# Altium schematic symbol library Clock_Schlib1.SchLib: 18 symbols
Pins are listed as number, name and electrical type; pins without a type are passive.

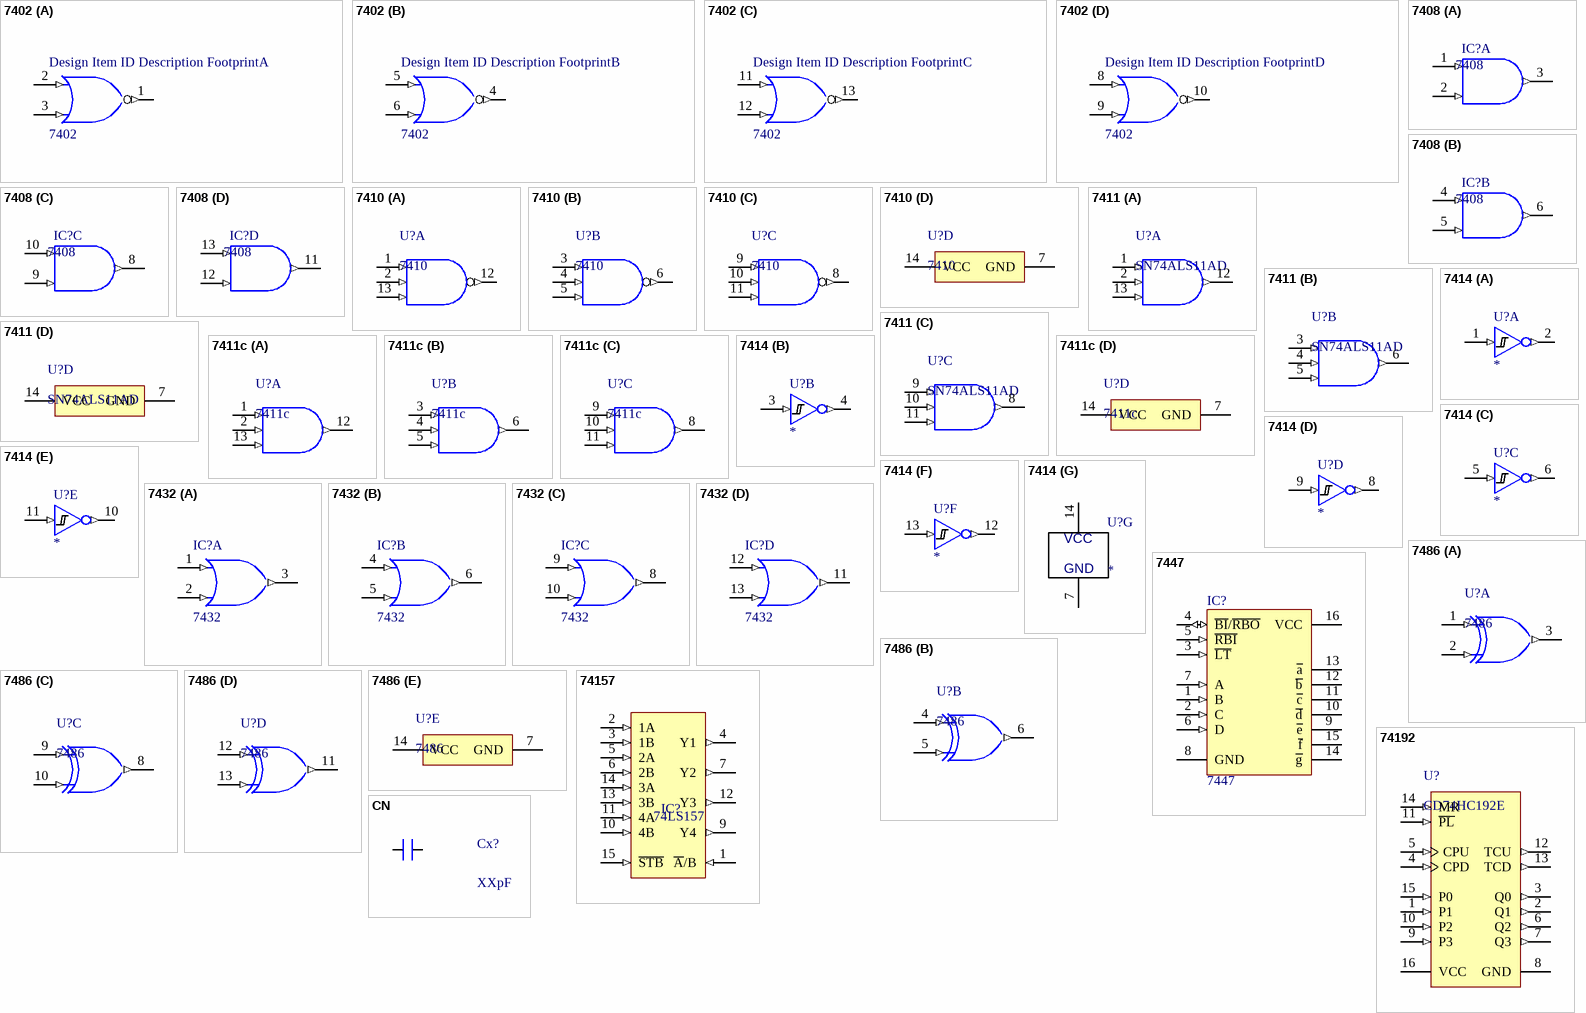
[diagram p0: symbols 7402 to CN]

## 7402
designator Design Item ID Description Footprint
Quad 2-Input NOR Gate; Value: 7402
footprint DIP14
footprint SO14 (SOIC, 14-Leads, Body 8.60x3.90mm, Pitch 1.27mm, IPC Medium Density)
pins on every part: 7 GND (power) hidden to GND, 14 VCC (power) hidden to VCC
part A pins: 1 ~{O} (out), 2 A (in), 3 B (in)
part B pins: 4 ~{O} (out), 5 A (in), 6 B (in)
part C pins: 11 A (in), 12 B (in), 13 ~{O} (out)
part D pins: 8 A (in), 9 B (in), 10 ~{O} (out)

## 7408
designator IC?
Quad 2-Input AND Gate; Value: 7408
footprint DIP14
footprint SO14 (SOIC, 14-Leads, Body 8.60x3.90mm, Pitch 1.27mm, IPC Medium Density)
pins on every part: 7 GND (power) hidden to GND, 14 VCC (power) hidden to VCC
part A pins: 1 A (in), 2 B (in), 3 O (out)
part B pins: 4 A (in), 5 B (in), 6 O (out)
part C pins: 8 O (out), 9 B (in), 10 A (in)
part D pins: 11 O (out), 12 B (in), 13 A (in)

## 7410
designator U?
Triple 3-input positive-NAND gates, N0014A, TUBE; Manufacturer: Texas Instruments; Generic Part Number: SN74F10; Input Type: TTL; F @ Nom Voltage(Max)(Mhz): 70; Schmitt Trigger: No; tpd @ Nom Voltage(Max)(ns): 6; Bits(#): 3; Rating: Catalog; VCC(Max)(V): 5.5; ICC @ Nom Voltage(Max)(mA): 0.0077; Output Drive (IOL/IOH)(Max)(mA): 1/-20; Technology Family: F; VCC(Min)(V): 4.5; Voltage(Nom)(V): 5; DatasheetVersion: SDFS039A; Output Type: TTL; Code_JEDEC: MS-001; Operating Temperature Range(C): 0 to 70; PackageReference: N0014A
footprint N0014A (DIP, 14-Leads, Body 19.7x6.6mm, Pitch 2.54mm)
part A pins: 1 1A (in), 2 1B (in), 12 1Y (out), 13 1C (in)
part B pins: 3 2A (in), 4 2B (in), 5 2C (in), 6 2Y (out)
part C pins: 8 3Y (out), 9 3A (in), 10 3B (in), 11 3C (in)
part D pins: 7 GND (power), 14 VCC (power)

## 7411
designator U?, comment SN74ALS11AD
Triple 3-Input Positive-AND Gates, D0014A, TUBE; Manufacturer: Texas Instruments; F @ Nom Voltage(Max)(Mhz): 75; Output Drive (IOL/IOH)(Max)(mA): -2.6/24; VCC(Max)(V): 5.5; Rating: Catalog; ICC @ Nom Voltage(Max)(mA): 0.0018; tpd @ Nom Voltage(Max)(ns): 13; VCC(Min)(V): 4.5; Bits(#): 3; Schmitt Trigger: No; Voltage(Nom)(V): 5; Technology Family: ALS; Output Type: TTL; Operating Temperature Range(C): 0 to 70; Generic Part Number: SN74ALS11A; PackageReference: D0014A; DatasheetVersion: SDAS009D; Input Type: TTL
footprint D0014A_L (SOIC, 14-Leads, Body 8.75x4mm, Pitch 1.27mm, IPC High Density)
footprint D0014A_N (SOIC, 14-Leads, Body 8.75x4mm, Pitch 1.27mm, IPC Medium Density)
footprint D0014A_M (SOIC, 14-Leads, Body 8.75x4mm, Pitch 1.27mm, IPC Low Density)
part A pins: 1 1A (in), 2 1B (in), 12 1Y (out), 13 1C (in)
part B pins: 3 2A (in), 4 2B (in), 5 2C (in), 6 2Y (out)
part C pins: 8 3Y (out), 9 3A (in), 10 3B (in), 11 3C (in)
part D pins: 7 GND (power), 14 VCC (power)

## 7411c
designator U?
High Speed CMOS Logic Triple 3-Input AND Gates, N0014A, TUBE; Generic Part Number: CD74HC11; Manufacturer: Texas Instruments; tpd @ Nom Voltage(Max)(ns): 25; VCC(Max)(V): 6; Rating: Catalog; Technology Family: HC; Schmitt Trigger: No; ICC @ Nom Voltage(Max)(mA): 0.02; Bits(#): 3; Voltage(Nom)(V): 5; Output Drive (IOL/IOH)(Max)(mA): -5.2/5.2; VCC(Min)(V): 2; F @ Nom Voltage(Max)(Mhz): 70; DatasheetVersion: SCHS273E; Input Type: CMOS; PackageReference: N0014A; Output Type: CMOS; Operating Temperature Range(C): -55 to 125
footprint N0014A (DIP, 14-Leads, Body 19.7x6.6mm, Pitch 2.54mm)
part A pins: 1 1A (in), 2 1B (in), 12 1Y (out), 13 1C (in)
part B pins: 3 2A (in), 4 2B (in), 5 2C (in), 6 2Y (out)
part C pins: 8 3Y (out), 9 3A (in), 10 3B (in), 11 3C (in)
part D pins: 7 GND (power), 14 VCC (power)

## 7414
designator U?
IC, M74HC04M, Hex Inverter, SO-14; Text Field1: ST; Text Field2: M74HC04M1R; Text Field3: Mouser; Text Field4: 511-M74HC04M; Text Field6: .22; Text Field5: SO-14; NI?: *; O?: *; Section:: *
footprint SO14 (SOIC, 14-Leads, Body 8.60x3.90mm, Pitch 1.27mm, IPC Medium Density)
footprint DIP14
footprint TSSOP14 (TSSOP, 14-Leads, Body 5.00x4.40mm, Pitch 0.65mm, IPC High Density)
part A pins: 1 A (in), 2 Y (out)
part B pins: 3 A (in), 4 Y (out)
part C pins: 5 A (in), 6 Y (out)
part D pins: 8 Y (out), 9 A (in)
part E pins: 10 Y (out), 11 A (in)
part F pins: 12 Y (out), 13 A (in)
part G pins: 7 GND, 14 VCC

## 7432
designator IC?
Quad 2-Input OR Gate
footprint DIP14
footprint SO14 (SOIC, 14-Leads, Body 8.60x3.90mm, Pitch 1.27mm, IPC Medium Density)
pins on every part: 7 GND (power) hidden to GND, 14 VCC (power) hidden to VCC
part A pins: 1 A (in), 2 B (in), 3 Y (out)
part B pins: 4 A (in), 5 B (in), 6 Y (out)
part C pins: 8 Y (out), 9 A (in), 10 B (in)
part D pins: 11 Y (out), 12 A (in), 13 B (in)

## 7447
designator IC?
BCD to 7-Segment Decoder/Driver; Value: 7447 , 74247
footprint DIP16
footprint SO16 (SOIC, 16-Leads, Body 9.90x3.91mm, Pitch 1.27mm, IPC Medium Density)
pins: 1 B (in), 2 C (in), 3 ~{LT} (in), 4 ~{BI}/~{RBO} (io), 5 ~{RBI} (in), 6 D (in), 7 A (in), 8 GND (power), 9 ~{e} (oc), 10 ~{d} (oc), 11 ~{c} (oc), 12 ~{b} (oc), 13 ~{a} (oc), 14 ~{g} (oc), 15 ~{f} (oc), 16 VCC (power)

## 7486
designator U?
High Speed CMOS Logic Quad 2-Input Exclusive-OR Gates, N0014A, TUBE; Manufacturer: Texas Instruments; Generic Part Number: CD74HC86; tpd @ Nom Voltage(Max)(ns): 30; Rating: Catalog; F @ Nom Voltage(Max)(Mhz): 70; VCC(Max)(V): 6; ICC @ Nom Voltage(Max)(mA): 0.02; VCC(Min)(V): 2; Voltage(Nom)(V): 5; Technology Family: HC; Schmitt Trigger: No; Output Drive (IOL/IOH)(Max)(mA): 5.2/-5.2; Bits(#): 4; Output Type: CMOS; DatasheetVersion: SCHS137D; Input Type: CMOS; PackageReference: N0014A; Operating Temperature Range(C): -55 to 125
footprint N0014A (DIP, 14-Leads, Body 19.7x6.6mm, Pitch 2.54mm)
part A pins: 1 1A (in), 2 1B (in), 3 1Y (out)
part B pins: 4 2A (in), 5 2B (in), 6 2Y (out)
part C pins: 8 3Y (out), 9 3A (in), 10 3B (in)
part D pins: 11 4Y (out), 12 4A (in), 13 4B (in)
part E pins: 7 GND (power), 14 VCC (power)

## 74157
designator IC?, comment 74LS157
Quad 2-Input Multiplexer; Value: 74LS157
footprint DIP16
footprint SO16 (SOIC, 16-Leads, Body 9.90x3.91mm, Pitch 1.27mm, IPC Medium Density)
pins: 1 ~{A}/B (in), 2 1A (in), 3 1B (in), 4 Y1 (out), 5 2A (in), 6 2B (in), 7 Y2 (out), 8 GND (power) hidden to GND, 9 Y4 (out), 10 4B (in), 11 4A (in), 12 Y3 (out), 13 3B (in), 14 3A (in), 15 ~{STB} (in), 16 VDD (power) hidden to VDD

## 74192
designator U?, comment CD74HC192E
High Speed CMOS Logic Presettable Synchronous BCD Decade Up/Down Counter with Asynchronous Reset, N0016A, TUBE; Manufacturer: Texas Instruments; Output Drive (IOL/IOH)(Max)(mA): 5.2/-5.2; Inputs: 1; VCC(Min)(V): 2; ICC @ Nom Voltage(Max)(mA): 0.08; Input Type: LVTTL/CMOS; Technology Family: HC; F @ Nom Voltage(Max)(Mhz): 28; VCC(Max)(V): 6; Bits(#): 4; Rating: Catalog; tpd @ Nom Voltage(Max)(ns): 46; Voltage(Nom)(V): 3.3,5; Schmitt Trigger: No; PackageReference: N0016A; Code_JEDEC: MS-001; Generic Part Number: CD74HC192; Type: Decade; DatasheetVersion: SCHS163F; Operating Temperature Range(C): -55 to 125; Function: Counter; Output Type: CMOS
footprint N0016A (DIP, 16-Leads, Body 19.7x6.6mm, Pitch 2.54mm)
pins: 1 P1 (in), 2 Q1 (out), 3 Q0 (out), 4 CPD (in), 5 CPU (in), 6 Q2 (out), 7 Q3 (out), 8 GND (power), 9 P3 (in), 10 P2 (in), 11 ~{PL} (in), 12 TCU (out), 13 TCD (out), 14 MR (in), 15 P0 (in), 16 VCC (power)

## CN
designator Cx?, comment XXpF
Value: 33pF
footprint CN1.5
footprint CN1
footprint CN2.5 (Tu pin to pin 250mil)
footprint CN3 (Cap np W 0.3)
footprint CN-SMD-0603
footprint CN-SMD-0805
footprint CN-SMD-0402
footprint CN-SMD-1206
footprint CN-SMD-2520 (TOKO INDUCTOR DFE252012 SERIES)
footprint CN-SMD-3225 (Chip Capacitor, Body 3.2x2.5mm, IPC Medium Density)
footprint CN2-T
footprint CN2-G
footprint CN0.8
footprint CN1-TA
footprint CN2-B
footprint CN2-LT
footprint CN2-O
footprint CN2-R
footprint CN2.5-BR (Tu pin to pin 250mil)
footprint CN2.5-R (Tu pin to pin 250mil)
footprint CN2.5-RV (Tu pin to pin 250mil)
footprint CN3.5 (Cap np W 0.3)
footprint CN4
footprint CN7 (Cap np W 0.3)
footprint CN3-B (Cap np W 0.3)
footprint CN7-B (Cap np W 0.3)
footprint CN7-N (Cap np W 0.3)
footprint CN7-Y (Cap np W 0.3)
footprint CN15 (Cap np W 0.3)
pins: 1, 2

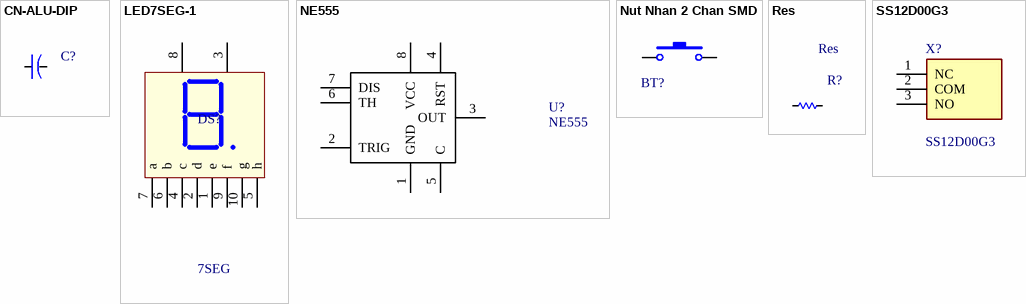
[diagram p1: symbols CN-ALU-DIP to SS12D00G3]

## CN-ALU-DIP
designator C?
Capacitor (Semiconductor SIM Model); Value: 104; LatestRevisionDate: 17-Jul-2002; LatestRevisionNote: Re-released for DXP Platform.; PackageReference: C1206; Publisher: Altium Limited
footprint CA-ALU-5 (Polarized capacitors, Aluminum Electrolytic Capacitors, 2-Leads, Body 5x11x2x0.5)
footprint CA-ALU-6.3 (Polarized capacitors, Aluminum Electrolytic Capacitors, 2-Leads, Body 6.3x15x2.5x0.5)
footprint CA-ALU-10 (Polarized capacitors, Aluminum Electrolytic Capacitors, 2-Leads, Body 10x20x5x0.6)
pins: 1, 2

## LED7SEG-1
designator DS?, comment 7SEG
14.2 mm General Purpose Blue 7-Segment Display: CC, RH DP, Gray Surface; MinimumIntensity: 2020 ucd; Note: IF = 10 mA; Published: 8-Jun-2000; LatestRevisionDate: 17-Dec-2003; LatestRevisionNote: Schematic revised, PCB Footprint replaced.; DatasheetDocument: 24-Sep-2002; PackageDocument: 24-Sep-2002; PackageReference: H; Publisher: Altium Limited; Colour: Blue; ComponentLink1Description: Manufacturer Link; ComponentLink1URL: http://www.agilent.com/
footprint LED7SEG-1-0.56
footprint LED7SEG-1-1.5
pins: 1 e, 2 d, 3 Vcc, 4 c, 5 h, 6 b, 7 a, 8 Vcc, 9 f, 10 g

## NE555
designator U?
TIMER IC; Manufacturer Part Number: NE555DT; Manufacturer: STMicroelectronics; Frequency: 500kHz; Voltage - Supply: 4.5 V ~ 16 V; Current: 200mA; Supplier 1: Digi-Key; Supplier Part Number 1: 497-1962-2-ND; Supplier: Digi-Key; Category: Integrated Circuits (ICs); Supplier Part Number: 497-1962-2-ND; Package / Case: 8-SOIC (3.9mm Width); Packaging: Tape & Reel (TR); RoHS: RoHS Compliant; Operating Temperature: 0°C ~ 70°C; Count: -; Type: 555 Type, Timer/Oscillator (Single)
footprint SO8
footprint DIP8
pins: 1 GND, 2 TRIG, 3 OUT, 4 RST, 5 C, 6 TH, 7 DIS, 8 VCC

## Nut Nhan 2 Chan SMD
designator BT?, comment Nút Nhấn 2 Chân 3x6x2.5MM SMD  (value not drawn)
Dán; Don_Vi: Con; Ma_Hang: MH001036; Ghi_Chu: *; Kieu_Chan: *; Ten_Linh_Kien: Nút Nhấn 2 Chân 3x6x2.5MM SMD; Chung_Loai: Dán
footprint Nut Nhan 2 Chan SMD_N (Switch SMD type)
pins: 1, 2

## Res
designator R?
Manufacturer: Generic Components; Class: Passive; SubClass: R; Published: 08/06/2000; Publisher: Altium Hobart Technology Centre
footprint RES-1/4W
footprint RES-1/4W-SMALL
footprint RES-1/4WD
pins: 1, 2

## SS12D00G3
designator X?
3 Pin Toggle Switch; Manufacturer_Name: Vimex; Geometry.Height: 7mm; Manufacturer_Part_Number: SS12D00G3; Mouser Part Number: *; Mouser Price/Stock: *; Arrow Part Number: *; Arrow Price/Stock: *; Datasheet Link: http://vimex.com/switches/techdocs/SS12D00-tech.pdf
footprint SS12D00G3
pins: 1 NC, 2 COM, 3 NO